# EAGLE library part MAX13256ATB+T (library MAX13256)
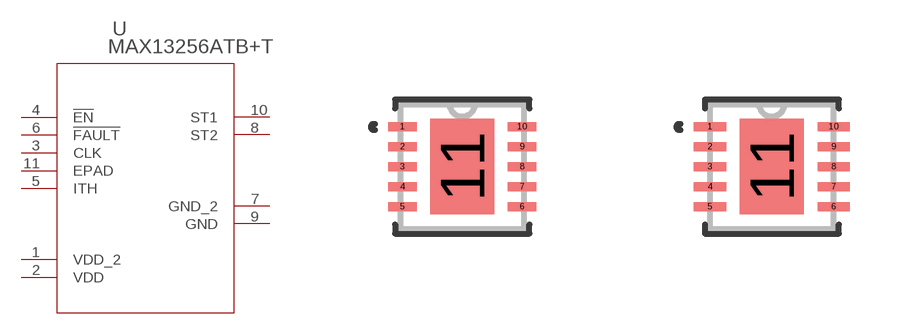
[diagram p0: symbol with the pads of 21-0137I_T1033-1_MXM; footprints 21-0137I_T1033-1_MXM, 21-0137I_T1033-1_MXM-M]

Designator prefix U

## MAX13256ATB+T (BUILT_BY: EMA_UL_Team; MANUFACTURER_PART_NUMBER: MAX13256ATB+T; SOURCELIBRARY: Maxim_2014-04-30; VENDOR: Maxim Integrated Products)  [21-0137I_T1033-1_MXM]
1  VDD_2  pwr
2  VDD  pwr
3  CLK  pas
4  !EN  pas
5  ITH  pas
6  !FAULT  pas
7  GND_2  pwr
8  ST2  pas
9  GND  pwr
10  ST1  pas
11  EPAD  pas

## MAX13256ATB+T21-0137I_T1033-1_MXM-M (BUILT_BY: EMA_UL_Team; MANUFACTURER_PART_NUMBER: MAX13256ATB+T; SOURCELIBRARY: Maxim_2014-04-30; VENDOR: Maxim Integrated Products)  [21-0137I_T1033-1_MXM-M]
Pads as for 21-0137I_T1033-1_MXM

## MAX13256ATB+T21-0137I_T1033-1_MXM-L (BUILT_BY: EMA_UL_Team; MANUFACTURER_PART_NUMBER: MAX13256ATB+T; SOURCELIBRARY: Maxim_2014-04-30; VENDOR: Maxim Integrated Products)  [21-0137I_T1033-1_MXM-L]
Pads as for 21-0137I_T1033-1_MXM

## Footprint 21-0137I_T1033-1_MXM (pad centres in mm)
smd 0.706 x 0.225: 1 -1.496,1; 2 -1.496,0.5; 3 -1.496,0; 4 -1.496,-0.5; 5 -1.496,-1; 6 1.496,-1; 7 1.496,-0.5; 8 1.496,0; 9 1.496,0.5; 10 1.496,1
smd 1.6 x 2.388: 11 0,0

## Footprint 21-0137I_T1033-1_MXM-M (pad centres in mm)
smd 0.806 x 0.225: 1 -1.546,1; 2 -1.546,0.5; 3 -1.546,0; 4 -1.546,-0.5; 5 -1.546,-1; 6 1.546,-1; 7 1.546,-0.5; 8 1.546,0; 9 1.546,0.5; 10 1.546,1
smd 1.6 x 2.388: 11 0,0

## Footprint 21-0137I_T1033-1_MXM-L (pad centres in mm)
smd 0.606 x 0.225: 1 -1.446,1; 2 -1.446,0.5; 3 -1.446,0; 4 -1.446,-0.5; 5 -1.446,-1; 6 1.446,-1; 7 1.446,-0.5; 8 1.446,0; 9 1.446,0.5; 10 1.446,1
smd 1.6 x 2.388: 11 0,0